# Altium footprint library pre_RESISTOR.PcbLib: 16 footprints
Each footprint in its own frame and in the unit in brackets; x right, y up, seen from the top. Pads: shape width x height; smd on the part's side, far side on the other; paste and mask are expansions set on the pad; w line width, h text height; cw(c..) or ccw(c..) is an arc to the next point about the centre after c.
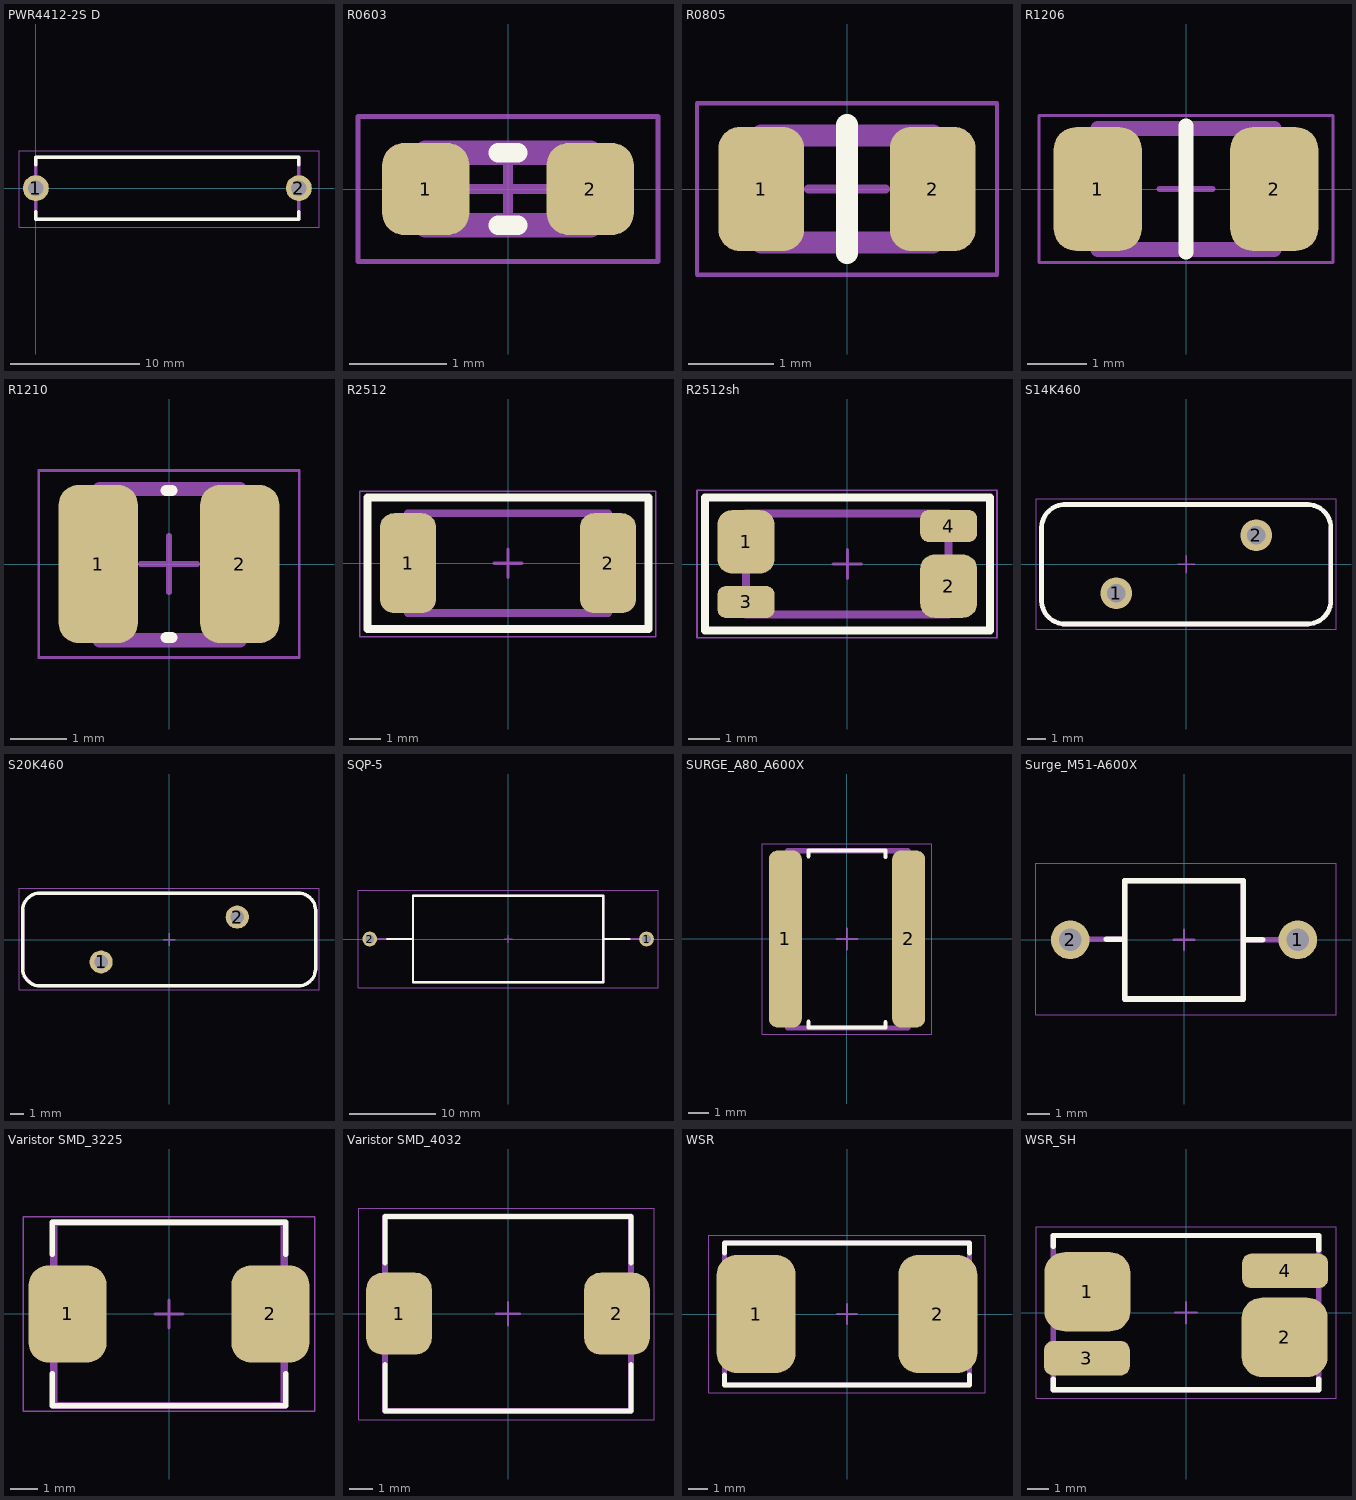
[diagram p0: the footprints below, top view; thin cyan lines are the x and y axes]

## PWR4412-2S D [mm]
pads (2):
  round 2 hole 1.2: 1(0,0) 2(20.32,0)
Top Overlay:
  lines w0.254: 0,-1.8 0,-2.4 20.32,-2.4 20.32,-1.8 ; 0,1.8 0,2.4 20.32,2.4 20.32,1.8
Top Assy:
  lines w0.254: 0,-2.4 20.32,-2.4 20.32,2.4 0,2.4 0,-2.4
Mechanical 13:
  lines w0.1: 0.025,-2.425 20.325,-2.425 20.325,2.4 0.025,2.4 0.025,-2.425
Mechanical 15:
  lines w0.05: -1.3,-3 21.875,-3 21.875,2.875 -1.3,2.875 -1.3,-3
  lines w0.1: -0.45,0 0.45,0 ; 0,-0.45 0,0.45
3D body: height 25.4, standoff 0, extent 19.72,-2.325 20.295,2.3
3D body: height 25.4, standoff 24, extent 0.025,-2.3 20.325,2.325
3D body: height 25.4, standoff 0, extent 0.025,-2.3 0.6,2.325

## R0603 [mm] "Chip Resistor, 2-Leads, Body 1,60x0,80mm, IPC Medium Density"
height 0.55
pads (2):
  rrect50% 0.9x0.95 smd: 1(-0.85,0) 2(0.85,0)
Top Overlay:
  lines w0.2: -0.1,-0.375 0.1,-0.375 ; -0.1,0.375 0.1,0.375
Top Assy:
  lines w0.254: -0.85,-0.375 -0.85,0.375 0.85,0.375 0.85,-0.375 -0.85,-0.375
Mechanical 13:
  lines w0.1: -0.85,-0.45 0.85,-0.45 0.85,0.45 -0.85,0.45 -0.85,-0.45
Mechanical 15:
  lines w0.05: -1.55,-0.75 1.55,-0.75 1.55,0.75 -1.55,0.75 -1.55,-0.75
  lines w0.1: -0.45,0 0.45,0 ; 0,-0.45 0,0.45
3D body: height 0.55, standoff 0, extent 0.6,-0.45 0.85,0.45
3D body: height 0.55, standoff 0, extent -0.85,-0.45 -0.6,0.45
3D body: height 0.55, standoff 0, extent -0.6,-0.45 0.6,0.45

## R0805 [mm]
height 0.025
pads (2):
  rrect50% 1x1.45 smd: 1(-1,0) 2(1,0)
Top Overlay:
  lines w0.254: 0,-0.75 0,0.75
Top Assy:
  lines w0.254: -1,-0.625 -1,0.625 1,0.625 1,-0.625 -1,-0.625
Mechanical 13:
  lines w0.1: -1,-0.65 1,-0.65 1,0.65 -1,0.65 -1,-0.65
Mechanical 15:
  lines w0.05: -1.75,-1 1.75,-1 1.75,1 -1.75,1 -1.75,-1
  lines w0.1: -0.45,0 0.45,0 ; 0,-0.45 0,0.45
3D body: height 0.55, standoff 0, extent -1,-0.625 1,0.625

## R1206 [mm]
height 2
pads (2):
  rrect50% 1.5x2.1 smd: 1(-1.5,0) 2(1.5,0)
Top Overlay:
  lines w0.254: 0,-1.075 0,1.075
Top Assy:
  lines w0.254: -1.5,-1.025 -1.5,1.025 1.5,1.025 1.5,-1.025 -1.5,-1.025
Mechanical 13:
  lines w0.1: -1.5,-1.025 1.5,-1.025 1.5,1.025 -1.5,1.025 -1.5,-1.025
Mechanical 15:
  lines w0.05: -2.5,-1.25 -2.5,1.25 2.5,1.25 2.5,-1.25 -2.5,-1.25
  lines w0.1: -0.45,0 0.45,0 ; 0,-0.45 0,0.45
3D body: height 0.6, standoff 0, extent -1.5,-1.025 1.5,1.025

## R1210 [mm] "R1210"
height 0.6
pads (2):
  rrect50% 1.4x2.8 smd: 1(-1.25,0) 2(1.25,0)
Top Overlay:
  lines w0.2: -0.05,-1.3 0.05,-1.3 ; -0.05,1.3 0.05,1.3
Top Assy:
  lines w0.254: -1.225,-1.35 -1.225,1.325 1.25,1.325 1.25,-1.35 -1.225,-1.35
Mechanical 13:
  lines w0.1: -1.6,-1.35 -1.6,1.35 1.6,1.35 1.6,-1.35 -1.6,-1.35
Mechanical 15:
  lines w0.05: -2.3,-1.65 -2.3,1.65 2.3,1.65 2.3,-1.65 -2.3,-1.65
  lines w0.1: -0.5,0 0.5,0 ; 0,-0.5 0,0.5
3D body: height 0.6, standoff 0, extent -1.1,-1.35 1.1,1.35
3D body: height 0.6, standoff 0, extent -1.6,-1.35 -1.1,1.35
3D body: height 0.6, standoff 0, extent 1.1,-1.35 1.6,1.35

## R2512 [mm]
pads (2):
  rrect50% 1.8x3.2 smd: 1(-3.2,0) 2(3.2,0)
Top Overlay:
  lines w0.254: -4.5,-2.1 4.5,-2.1 4.5,2.1 -0.5,2.1 -4.5,2.1 -4.5,-2.1
Top Assy:
  lines w0.254: -3.2,-1.6 3.2,-1.6 3.2,1.6 0,1.6 -3.2,1.6 -3.2,-1.6
Mechanical 13:
  lines w0.1: -3.2,-1.6 3.2,-1.6 3.2,1.6 -3.2,1.6 -3.2,-1.6
Mechanical 15:
  lines w0.05: -4.75,-2.35 -4.75,2.3 4.725,2.3 4.725,-2.35 -4.75,-2.35 ; -4.5,-2.1 4.525,-2.1 4.525,2.1 -4.5,2.1 -4.5,-2.1
  lines w0.1: -0.45,0 0.45,0 ; 0,-0.45 0,0.45
3D body: height 0.6, standoff 0, extent -3.2,-1.6 3.2,1.6

## R2512sh [mm]
pads (4):
  rrect50% 1.8x2 smd: 1(-3.2,0.7) 2(3.2,-0.7)
  rrect50% 1.8x1 smd: 3(-3.2,-1.2) 4(3.2,1.2)
Top Overlay:
  lines w0.254: -4.5,-2.1 -4.5,2.1 -0.5,2.1 4.5,2.1 4.5,-2.1 -4.5,-2.1
Top Assy:
  lines w0.254: -3.2,-1.6 -3.2,1.6 0,1.6 3.2,1.6 3.2,-1.6 -3.2,-1.6
Mechanical 13:
  lines w0.1: -3.2,-1.6 -3.2,1.6 3.2,1.6 3.2,-1.6 -3.2,-1.6
Mechanical 15:
  lines w0.05: -4.75,-2.325 4.725,-2.325 4.725,2.325 -4.75,2.325 -4.75,-2.325 ; -4.5,-2.1 -4.5,2.1 4.525,2.1 4.525,-2.1 -4.5,-2.1
  lines w0.1: -0.45,0 0.45,0 ; 0,-0.45 0,0.45
3D body: height 0.6, standoff 0, extent -3.2,-1.6 3.2,1.6

## S14K460 [mm]
height 19
pads (2):
  round 1.7 hole 1: 1(-3.75,-1.55) 2(3.75,1.55)
Top Overlay:
  lines w0.254: -7.75,-1.975 -7.75,1.95 cw(c-6.5,1.95) -6.5,3.2 ; -7.75,-1.95 ccw(c-6.5,-1.95) -6.5,-3.2 ; -6.6,-3.2 6.525,-3.2 ; -6.55,3.2 6.5,3.2 cw(c6.5,1.95) 7.75,1.95 ; 6.5,-3.2 ccw(c6.5,-1.95) 7.75,-1.95 ; 7.75,-2.025 7.75,2.025
Top Assy:
  lines w0.254: -7.75,-2 -7.75,2 ; -6.575,-3.2 6.55,-3.2 ; -6.55,3.2 6.575,3.2 ; 7.75,-2.025 7.75,1.95
Mechanical 13:
  lines w0.1: -7.75,-2.4 -7.75,2.425 -7,3.175 6.95,3.175 7.7,2.425 7.7,-2.4 6.9,-3.2 -6.95,-3.2 -7.75,-2.4
Mechanical 15:
  lines w0.05: -8.05,-3.475 -8.05,3.5 8.025,3.5 8.025,-3.475 -8.05,-3.475
  lines w0.1: -0.45,0 0.45,0 ; 0,-0.45 0,0.45
3D body: height 19, standoff 3, extent -7.75,-3.2 7.75,3.2

## S20K460 [mm]
height 26
pads (2):
  round 1.7 hole 1: 1(-5,-1.65) 2(5,1.65)
Top Overlay:
  lines w0.254: 10.75,-2.225 10.75,2.15 ccw(c9.5,2.15) 9.5,3.4 -9.5,3.4 ccw(c-9.5,2.15) -10.75,2.15 -10.75,-2.15 ccw(c-9.5,-2.15) -9.5,-3.4 9.5,-3.4 ccw(c9.5,-2.15) 10.75,-2.15
Top Assy:
  lines w0.254: -10.75,-2.15 -10.75,2.15 ; -9.5,-3.4 9.5,-3.4 ; -9.5,3.4 9.525,3.4 ; 10.75,-2.15 10.75,2.15 ; 10.75,-1.975 10.75,2.025
Mechanical 13:
  lines w0.1: -10.75,-2.525 -9.9,-3.375 9.65,-3.375 10.113,-3.313 10.638,-2.788 10.7,-2.325 10.7,2.675 9.975,3.4 -9.95,3.4 -10.75,2.6 -10.75,-2.525
Mechanical 15:
  lines w0.05: -11.025,-3.675 -11.025,3.75 11,3.75 11,-3.675 -11.025,-3.675
  lines w0.1: -0.45,0 0.45,0 ; 0,-0.45 0,0.45
3D body: height 26, standoff 3, extent -10.75,-3.4 10.75,3.4

## SQP-5 [mm]
pads (2):
  round 1.7 hole 1: 1(16,0) 2(-16,0)
Top Overlay:
  lines w0.254: -14,0 -11,0 ; 11,0 14,0 ; -11,-5 11,-5 11,5 -11,5 -11,-5
Top Assy:
  lines w0.254: -16,0 -11,0 ; 11,0 16,0 ; -11,-5 11,-5 11,5 -11,5 -11,-5
Mechanical 13:
  lines w0.1: -16,0 -11,0 ; 11.025,0 16.025,0 ; -11.025,-5.025 11.025,-5.025 11.025,5.025 -11.025,5.025 -11.025,-5.025
Mechanical 15:
  lines w0.05: -17.35,-5.65 17.325,-5.65 17.325,5.65 -17.35,5.65 -17.35,-5.65
  lines w0.1: -0.45,0 0.45,0 ; 0,-0.45 0,0.45
3D body: height 4.25, standoff 3.75, extent -16,-0.05 -11,0.05
3D body: height 4.25, standoff 3.75, extent 11.025,-0.05 16.025,0.05
3D body: height 9, standoff 0, extent -11,-4.95 11,5.025

## SURGE_A80_A600X [mm]
height 8
pads (2):
  rrect50% 1.6x8.6 smd: 1(-3,0) 2(3,0)
Top Overlay:
  lines w0.2: -1.875,-4.025 -1.875,-4.3 1.875,-4.3 1.875,-4.05 ; -1.875,4.025 -1.875,4.3 1.875,4.3 1.875,4
Top Assy:
  lines w0.254: -2.9,-4.325 -2.9,4.3 0.7,4.3 2.975,4.3 2.975,-4.325 -2.9,-4.325
Mechanical 13:
  lines w0.1: -2.925,-4.325 3,-4.325 3,4.325 -2.925,4.325 -2.925,-4.325
Mechanical 15:
  lines w0.05: -4.125,-4.625 4.125,-4.625 4.125,4.625 -4.125,4.625 -4.125,-4.625
  lines w0.1: -0.5,0 0.5,0 ; 0,-0.5 0,0.5
3D body: height 8, standoff 0, extent -2.9,-4.325 3.025,4.325

## Surge_M51-A600X [mm]
height 5
pads (2):
  round 1.7 hole 1: 1(5,0) 2(-5,0)
Top Overlay:
  lines w0.254: -3.4,0.025 -2.625,0.025 ; 2.6,0 3.45,0 ; -2.6,-2.6 2.6,-2.6 2.6,2.6 -2.6,2.6 -2.6,-2.6
Top Assy:
  lines w0.254: -5,0.021 -2.625,0.025 ; 2.6,0 5,0 ; -2.6,-2.6 2.6,-2.6 2.6,2.6 -2.6,2.6 -2.6,-2.6
Mechanical 13:
  lines w0.1: -5,0 -2.625,0 ; 2.55,0.025 5,0.025 ; -2.6,-2.6 2.6,-2.6 2.6,2.6 -2.6,2.6 -2.6,-2.6
Mechanical 15:
  lines w0.05: -6.5,-3.3 6.675,-3.3 6.675,3.375 -6.5,3.375 -6.5,-3.3
  lines w0.1: -0.45,0 0.45,0 ; 0,-0.45 0,0.45
3D body: height 3, standoff 2.2, extent -5,-0.037 -2.5,0.088
3D body: height 3, standoff 2.2, extent 2.5,-0.05 5,0.05
3D body: height 9, standoff 0, extent -2.6,-2.6 2.55,2.575

## Varistor SMD_3225 [mm] "Molded Varistor, 2-Leads, Body 8,00x6,30mm"
height 3.5
pads (2):
  rrect50% 2.8x3.5 smd: 1(-3.65,0) 2(3.65,0)
Top Overlay:
  lines w0.2: -4.2,-2.15 -4.2,-3.3 4.2,-3.3 4.2,-2.15 ; -4.2,2.15 -4.2,3.3 4.2,3.3 4.2,2.15
Top Assy:
  lines w0.254: -4.15,-3.3 -4.15,3.3 1.7,3.3 4.15,3.3 4.15,-3.3 -4.15,-3.3
Mechanical 13:
  lines w0.1: -4.15,-3.3 4.15,-3.3 4.15,3.3 -4.15,3.3 -4.15,-3.3
Mechanical 15:
  lines w0.05: -5.25,-3.5 5.25,-3.5 5.25,3.5 -5.25,3.5 -5.25,-3.5
  lines w0.1: -0.5,0 0.5,0 ; 0,-0.5 0,0.5
3D body: height 3.5, standoff 0, extent -4.15,-3.3 4.15,3.3

## Varistor SMD_4032 [mm] "Molded Varistor, 2-Leads, Body 10,20x8,00mm"
height 4.5
pads (2):
  rrect50% 2.8x3.5 smd: 1(-4.65,0) 2(4.65,0)
Top Overlay:
  lines w0.2: -5.25,-2.15 -5.25,-4.15 5.25,-4.15 5.25,-2.15 ; -5.25,2.15 -5.25,4.15 5.25,4.15 5.25,2.15
Top Assy:
  lines w0.254: -5.25,-4.15 -5.25,4.15 1.7,4.15 5.25,4.15 5.25,-4.15 -5.25,-4.15
Mechanical 13:
  lines w0.1: -5.25,-4.15 5.25,-4.15 5.25,4.15 -5.25,4.15 -5.25,-4.15
Mechanical 15:
  lines w0.05: -6.375,-4.525 6.25,-4.525 6.25,4.5 -6.375,4.5 -6.375,-4.525
  lines w0.1: -0.5,0 0.5,0 ; 0,-0.5 0,0.5
3D body: height 4.5, standoff 0, extent -5.25,-4.15 5.25,4.15

## WSR [mm]
height 2.8
pads (2):
  rrect50% 4x6 smd: 1(-4.6,0) 2(4.6,0)
Top Overlay:
  lines w0.254: -6.2,-3.1 -6.2,-3.6 6.2,-3.6 6.2,-3.1 ; -6.2,3.1 -6.2,3.6 6.2,3.6 6.2,3.1
Top Assy:
  lines w0.254: -6.2,-3.6 6.2,-3.6 6.2,3.6 -6.2,3.6 -6.2,-3.6
Mechanical 13:
  lines w0.1: -6.2,-3.6 6.2,-3.6 6.2,3.6 -6.2,3.6 -6.2,-3.6
Mechanical 15:
  lines w0.05: -7,-4 7,-4 7,4 -7,4 -7,-4
  lines w0.1: -0.5,0 0.5,0 ; 0,-0.5 0,0.5
3D body: height 2.8, standoff 0, extent -6.2,-3.6 6.2,3.6

## WSR_SH [mm]
height 2.8
pads (4):
  rrect50% 4x3.7 smd: 1(-4.6,0.975) 2(4.6,-1.15)
  rrect50% 4x1.6 smd: 3(-4.625,-2.125) 4(4.625,1.95)
Top Overlay:
  lines w0.254: -6.2,-3.1 -6.2,-3.6 6.2,-3.6 6.2,-3.1 ; -6.2,3.1 -6.2,3.6 6.2,3.6 6.2,3.1 ; 6.2,2.925 6.2,3.425
Top Assy:
  lines w0.254: -6.2,-3.6 6.2,-3.6 6.2,3.6 -6.2,3.6 -6.2,-3.6
Mechanical 13:
  lines w0.1: -6.2,-3.6 6.2,-3.6 6.2,3.6 -6.2,3.6 -6.2,-3.6
Mechanical 15:
  lines w0.05: -7,-4 7,-4 7,4 -7,4 -7,-4
  lines w0.1: -0.5,0 0.5,0 ; 0,-0.5 0,0.5
3D body: height 2.8, standoff 0, extent -6.2,-3.6 6.2,3.6